# Altium schematic symbol library BAV99.Schlib: 1 symbol
Pins are listed as number, name and electrical type; pins without a type are passive.

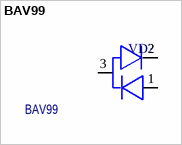
[diagram p0: symbol BAV99]

## BAV99
designator VD?
High-speed switching diodes; Назначение: Диодная сборка; ComponentLink1Description: DataSheet; ComponentLink1URL: https://static.chipdip.ru/lib/224/DOC000224765.pdf; Наименование: BAV99
footprint SOT-23
footprint SOT-23 inverted 2
pins: 1 5, 2 4, 3 6